# Altium footprint library C1.PcbLib: 1 footprints
Each footprint in its own frame and in the unit in brackets; x right, y up, seen from the top. Pads: shape width x height; smd on the part's side, far side on the other; paste and mask are expansions set on the pad; w line width, h text height; cw(c..) or ccw(c..) is an arc to the next point about the centre after c.
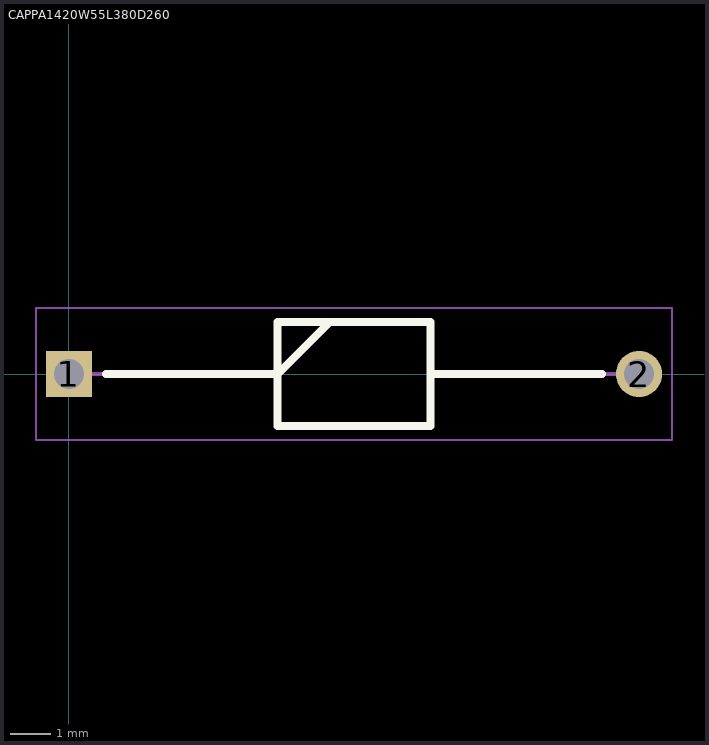
[diagram p0: the footprint, top view; thin cyan lines are the x and y axes]

## CAPPA1420W55L380D260 [mm]
pads (2):
  rect 1.15x1.15 / inner round 1.15 / far side rect 1.15x1.15 hole 0.75: 1(0,0)
  round 1.15 hole 0.75: 2(14.2,0)
Top Overlay:
  lines w0.2: 0.925,0 5.2,0 6.5,1.3 ; 9,0 13.275,0 ; 5.2,-1.3 9,-1.3 9,1.3 5.2,1.3 5.2,-1.3
Mechanical 15:
  lines w0.1: 0,0 5.2,0 6.5,1.3 ; 9,0 14.2,0 ; 5.2,-1.3 9,-1.3 9,1.3 5.2,1.3 5.2,-1.3
Mechanical 20:
  lines w0.05: -0.825,-1.65 15.025,-1.65 15.025,1.65 -0.825,1.65 -0.825,-1.65